# Altium schematic symbol library WJ500V-5.08-2P.SchLib: 1 symbol
Pins are listed as number, name and electrical type; pins without a type are passive.

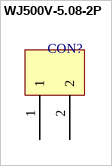
[diagram p0: symbol WJ500V-5.08-2P]

## WJ500V-5.08-2P
designator CON?  (value not drawn)
footprint WJ500V-5.08-2P
pins: 1, 2